# Altium schematic symbol library 磁珠.SchLib: 1 symbol
Pins are listed as number, name and electrical type; pins without a type are passive.

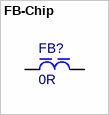
[diagram p0: symbol FB-Chip]

## FB-Chip
designator FB?, comment value 0R  (hidden comment: 0R @100MHz 500mA)
贴片磁珠; DCR: .1m; Published: 2020-12-18; Revision: V1.0; Frequency: @100MHz; Imax: 500mA
footprint INDC1608[0603]S (Not in IPC, Chip Inductor,Silkscreen Border, 2-Leads, Body 1.60x0.80mm, IPC Medium Density)
footprint INDC2012[0805]S (Chip Inductor,Silkscreen Border, 2-Leads, Body 2.00x0.90mm, IPC Medium Density)
footprint INDC3216[1206]S (Chip Inductor,Silkscreen Border, 2-Leads, Body 3.20x1.60mm, IPC Medium Density)
footprint INDC4509[1806]S (Chip Inductor,Silkscreen Border, 2-Leads, Body 4.50x0.90mm, IPC Medium Density)
footprint INDC1005[0402] (Chip Inductor, 2-Leads, Body 1.00x0.50mm, IPC Medium Density)
footprint INDC1608[0603] (Chip Inductor, 2-Leads, Body 1.60x0.80mm, IPC Medium Density)
footprint INDC2012[0805] (Chip Inductor, 2-Leads, Body 2.00x0.90mm, IPC Medium Density)
footprint INDC3216[1206] (Chip Inductor, 2-Leads, Body 3.20x1.60mm, IPC Medium Density)
footprint INDC3225[1210] (Capacitor,non-polarized,Chip;3.20mm L X 2.50mm W X 1.35mm H)
footprint INDC3216[1206] (Chip Inductor, 2-Leads, Body 3.20x1.60mm, IPC Medium Density)
footprint INDC1005[0402]S (Chip Inductor, 2-Leads, Body 1.00x0.50mm, IPC Medium Density)
footprint L0402
footprint L0603
footprint L0805
pins: 1, 2